# EAGLE library part TPS61158 (library balto)
TPS61158 30-V WLED Driver with Integrated Power Diode
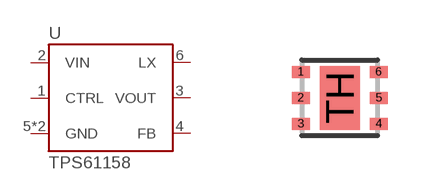
[diagram p71: symbol with the pads of WSON6; footprint WSON6]

Designator prefix U

## TPS61158  [WSON6]
1  CTRL
2  VIN
3  VOUT
4  FB
5  GND
6  LX
TH  GND

## Footprint WSON6 (pad centres in mm)
WSON - 0.8 mm max height
smd 0.45 x 0.3: 1 -0.975,0.65; 2 -0.975,0; 3 -0.975,-0.65; 4 0.975,-0.65; 5 0.975,0; 6 0.975,0.65
smd 1 x 1.6: TH 0,0